# Altium integrated library Xilinx XC4000 XL.IntLib: 450 symbols (part 53 of 55)
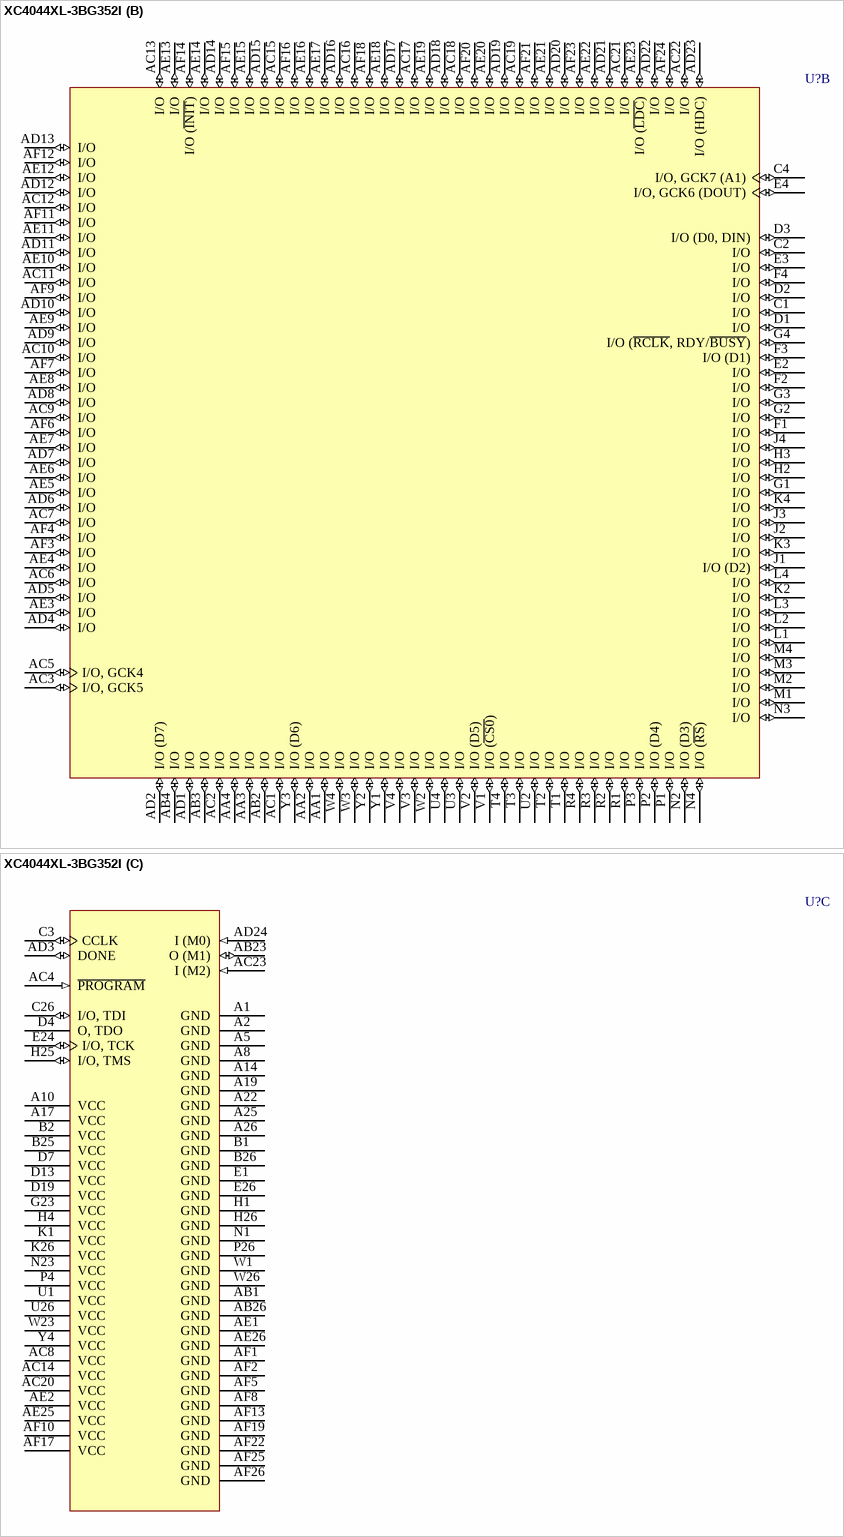
[diagram p451: symbol XC4044XL-3BG352I]

## XC4085XL-2BG560I
designator U?
XC4000XL FPGA, 560-Ball BGA, Industrial Grade; ComponentAvailability: Not for New Design; Published: 28-Feb-2003; LatestRevisionDate: 13-Apr-2006; LatestRevisionNote: IPC-7351 Footprint Added.; DatasheetVersion: (v1.6) May-99; PackageVersion: ver1.1, Apr-2001; PackageReference: BG560; Publisher: Altium Limited; PackageDescription: 560-Ball Metal Ball Grid Array (BG560); Code_JEDEC: MO-192-BAV-1 (Depopulated); ComponentLink1Description: Manufacturer Link; ComponentLink1URL: http://www.xilinx.com/; ComponentLink2Description: Datasheet; ComponentLink2URL: http://direct.xilinx.com/bvdocs/publications/4000.pdf; ComponentLink3Description: Discontinuation Notice; ComponentLink3URL: http://direct.xilinx.com/bvdocs/notifications/pdn2004-21.pdf
footprint BG560 (BGA, 560-Leads, Body 42.5x42.5mm, Pitch 1.27mm)
3D model XC4085XL-BG560 (560-Ball Metal Ball Grid Array (BG560))
part A pins: A3 I/O (io), A5 I/O (io), A6 I/O (io), A8 I/O (io), A9 I/O (io), A11 I/O (io), A13 I/O (io), A15 I/O (io), A17 I/O (A8) (io), A19 I/O (io), A21 I/O (io), A23 I/O (io), A25 I/O (io), A27 I/O (io), A28 I/O (io), A31 I/O (io), AA29 I/O (io), AA30 I/O (io), AA31 I/O (io), AA32 I/O (io), AA33 I/O (io), AB29 I/O (io), AB30 I/O (io), AB31 I/O (io), AB32 I/O (io), AC29 I/O (io), AC30 I/O (io), AC31 I/O (io), AC33 I/O (io), AD29 I/O (io), AD30 I/O (io), AD31 I/O (io), AD32 I/O (io), AE29 I/O (io), AE30 I/O (io), AE31 I/O (io), AE32 I/O (io), AE33 I/O (io), AF29 I/O (io), AF30 I/O (io), AF31 I/O (io), AF32 I/O (io), AG29 I/O (io), AG30 I/O (io), AG31 I/O (io), AG33 I/O (io), AH29 I/O, GCK2 (io), AH30 I/O (io), AH31 I/O (io), AH32 I/O (io), AH33 I/O (io), AJ28 I/O, GCK3 (io), AJ30 I/O (io), AJ31 I/O (io), AJ32 I/O (io), AK31 I/O (io), AK32 I/O (io), AL33 I/O (io), B4 I/O (io), B5 I/O (io), B7 I/O (io), B8 I/O (io), B10 I/O (io), B11 I/O (io), B12 I/O (io), B14 I/O (io), B16 I/O (io), B17 I/O (io), B18 I/O (A9) (io), B20 I/O (io), B21 I/O (io), B22 I/O (io), B24 I/O (io), B25 I/O (io), B26 I/O (io), B28 I/O (io), B29 I/O (A12) (io), B30 I/O (io), B33 I/O, GCK1 (A16) (io), C5 I/O (io), C6 I/O (CS1, A2) (io), C7 I/O (io), C8 I/O (io), C9 I/O (io), C10 I/O (io), C11 I/O (io), C12 I/O (io), C13 I/O (io), C14 I/O (io), C15 I/O (io), C16 I/O (A21) (io), C17 I/O (io), C18 I/O (io), C19 I/O (A19) (io), C20 I/O (A10) (io), C21 I/O (io), C22 I/O (io), C23 I/O (io), C24 I/O (io), C25 I/O (io), C26 I/O (io), C27 I/O (io), C28 I/O (io), C29 I/O (io), C30 I/O (io), D5 I/O (A0, ~{WS}) (io), D6 I/O (io), D7 I/O (io), D8 I/O (io), D9 I/O (io), D10 I/O (io), D11 I/O (io), D12 I/O (io), D13 I/O (io), D14 I/O (io), D15 I/O (A5) (io), D16 I/O (io), D17 I/O (A7) (io), D18 I/O (io), D19 I/O (A18) (io), D20 I/O (A11) (io), D21 I/O (io), D22 I/O (io), D23 I/O (io), D24 I/O (io), D25 I/O (io), D26 I/O (io), D27 I/O (io), D28 I/O (io), D29 I/O (io), D30 I/O (A14) (io), D31 I/O (io), D32 I/O (io), E7 I/O (io), E8 I/O (A3) (io), E9 I/O (io), E10 I/O (io), E11 I/O (io), E12 I/O (io), E13 I/O (io), E14 I/O (io), E15 I/O (A4) (io), E16 I/O (A20) (io), E17 I/O (A6) (io), E18 I/O (io), E19 I/O (io), E20 I/O (io), E21 I/O (io), E22 I/O (io), E23 I/O (io), E24 I/O (io), E25 I/O (io), E26 I/O (A13) (io), E27 I/O (io), E28 I/O (io), E29 I/O, GCK8 (A15) (io), E30 I/O (io), E31 I/O (io), E32 I/O (io), E33 I/O (io), F29 I/O (A17) (io), F31 I/O (io), F33 I/O (io), G29 I/O (io), G30 I/O (io), G31 I/O (io), G32 I/O (io), H29 I/O (io), H30 I/O (io), H31 I/O (io), H32 I/O (io), H33 I/O (io), J29 I/O (io), J30 I/O (io), J31 I/O (io), K29 I/O (io), K30 I/O (io), K31 I/O (io), K32 I/O (io), L29 I/O (io), L30 I/O (io), L31 I/O (io), L32 I/O (io), L33 I/O (io), M29 I/O (io), M30 I/O (io), M31 I/O (io), M32 I/O (io), N29 I/O (io), N30 I/O (io), N31 I/O (io), N33 I/O (io), P29 I/O (io), P30 I/O (io), P31 I/O (io), P32 I/O (io), R29 I/O (io), R30 I/O (io), R31 I/O (io), R33 I/O (io), T29 I/O (io), T30 I/O (io), T31 I/O (io), T32 I/O (io), U29 I/O (io), U30 I/O (io), U31 I/O (io), U32 I/O (io), U33 I/O (io), V29 I/O (io), V30 I/O (io), V31 I/O (io), V32 I/O (io), W29 I/O (io), W30 I/O (io), W31 I/O (io), W33 I/O (io), Y29 I/O (io), Y30 I/O (io), Y31 I/O (io), Y32 I/O (io)
part B pins: A2 I/O, GCK7 (A1) (io), AA1 I/O (io), AA3 I/O (io), AA4 I/O (io), AA5 I/O (D5) (io), AB2 I/O (io), AB3 I/O (~{CS0}) (io), AB4 I/O (io), AB5 I/O (io), AC1 I/O (io), AC3 I/O (io), AC4 I/O (io), AC5 I/O (io), AD2 I/O (io), AD3 I/O (io), AD4 I/O (io), AD5 I/O (io), AE1 I/O (io), AE3 I/O (io), AE4 I/O (io), AE5 I/O (io), AF1 I/O (io), AF2 I/O (io), AF3 I/O (io), AF4 I/O (io), AF5 I/O (io), AG2 I/O (io), AG3 I/O (io), AG4 I/O (io), AG5 I/O (io), AH1 I/O (io), AH3 I/O (io), AH4 I/O (io), AH5 I/O (D7) (io), AJ1 I/O (D6) (io), AJ2 I/O (io), AJ3 I/O (io), AJ4 I/O, GCK5 (io), AJ6 I/O (io), AJ7 I/O (io), AJ8 I/O (io), AJ9 I/O (io), AJ10 I/O (io), AJ11 I/O (io), AJ12 I/O (io), AJ13 I/O (io), AJ14 I/O (io), AJ15 I/O (io), AJ16 I/O (io), AJ17 I/O (~{INIT}) (io), AJ18 I/O (io), AJ19 I/O (io), AJ20 I/O (io), AJ21 I/O (io), AJ22 I/O (io), AJ23 I/O (io), AJ24 I/O (io), AJ25 I/O (io), AJ26 I/O (io), AJ27 I/O (~{LDC}) (io), AK2 I/O (io), AK3 I/O (io), AK5 I/O (io), AK6 I/O (io), AK7 I/O (io), AK8 I/O (io), AK9 I/O (io), AK10 I/O (io), AK11 I/O (io), AK12 I/O (io), AK13 I/O (io), AK14 I/O (io), AK15 I/O (io), AK16 I/O (io), AK17 I/O (io), AK18 I/O (io), AK19 I/O (io), AK20 I/O (io), AK21 I/O (io), AK22 I/O (io), AK23 I/O (io), AK24 I/O (io), AK25 I/O (io), AK26 I/O (io), AK27 I/O (io), AK28 I/O (io), AK29 I/O (HDC) (io), AL1 I/O (io), AL4 I/O, GCK4 (io), AL5 I/O (io), AL6 I/O (io), AL7 I/O (io), AL8 I/O (io), AL9 I/O (io), AL10 I/O (io), AL11 I/O (io), AL12 I/O (io), AL13 I/O (io), AL14 I/O (io), AL15 I/O (io), AL16 I/O (io), AL17 I/O (io), AL18 I/O (io), AL19 I/O (io), AL20 I/O (io), AL21 I/O (io), AL22 I/O (io), AL23 I/O (io), AL24 I/O (io), AL25 I/O (io), AL26 I/O (io), AL27 I/O (io), AL28 I/O (io), AL29 I/O (io), AL30 I/O (io), AM4 I/O (io), AM5 I/O (io), AM6 I/O (io), AM8 I/O (io), AM9 I/O (io), AM10 I/O (io), AM12 I/O (io), AM13 I/O (io), AM14 I/O (io), AM16 I/O (io), AM17 I/O (io), AM18 I/O (io), AM20 I/O (io), AM22 I/O (io), AM23 I/O (io), AM24 I/O (io), AM26 I/O (io), AM27 I/O (io), AM29 I/O (io), AM30 I/O (io), AM31 I/O (io), AN3 I/O (io), AN6 I/O (io), AN7 I/O (io), AN9 I/O (io), AN11 I/O (io), AN13 I/O (io), AN15 I/O (io), AN17 I/O (io), AN19 I/O (io), AN21 I/O (io), AN23 I/O (io), AN25 I/O (io), AN26 I/O (io), AN28 I/O (io), AN29 I/O (io), AN31 I/O (io), B3 I/O (io), C1 I/O (io), D2 I/O (io), D3 I/O (io), D4 I/O, GCK6 (DOUT) (io), E2 I/O (io), E3 I/O (io), E4 I/O (D0, DIN) (io), F1 I/O (io), F2 I/O (io), F3 I/O (D1) (io), F4 I/O (io), F5 I/O (io), G1 I/O (io), G3 I/O (io), G4 I/O (~{RCLK}, RDY/~{BUSY}) (io), G5 I/O (io), H2 I/O (io), H3 I/O (io), H4 I/O (io), H5 I/O (io), J1 I/O (io), J2 I/O (io), J3 I/O (io), J4 I/O (io), J5 I/O (io), K2 I/O (io), K3 I/O (io), K4 I/O (io), K5 I/O (io), L1 I/O (io), L3 I/O (io), L4 I/O (io), L5 I/O (io), M2 I/O (io), M3 I/O (io), M4 I/O (D2) (io), M5 I/O (io), N1 I/O (io), N2 I/O (io), N3 I/O (io), N4 I/O (io), N5 I/O (io), P2 I/O (io), P3 I/O (io), P4 I/O (io), P5 I/O (io), R1 I/O (io), R3 I/O (io), R4 I/O (io), R5 I/O (io), T2 I/O (~{RS}) (io), T3 I/O (io), T4 I/O (io), T5 I/O (io), U1 I/O (io), U2 I/O (io), U3 I/O (D3) (io), U4 I/O (io), U5 I/O (D4) (io), V2 I/O (io), V3 I/O (io), V4 I/O (io), V5 I/O (io), W1 I/O (io), W3 I/O (io), W4 I/O (io), W5 I/O (io), Y2 I/O (io), Y3 I/O (io), Y4 I/O (io), Y5 I/O (io)
part C pins: A1 NC, A4 VCC (power), A7 GND (power), A10 VCC (power), A12 GND (power), A14 GND (power), A16 VCC (power), A18 GND (power), A20 GND (power), A22 VCC (power), A24 GND (power), A26 VCC (power), A29 GND (power), A30 VCC (power), A32 GND (power), A33 NC, AA2 VCC (power), AB1 GND (power), AB33 VCC (power), AC2 NC, AC32 GND (power), AD1 VCC (power), AD33 GND (power), AE2 GND (power), AF33 VCC (power), AG1 GND (power), AG32 GND (power), AH2 GND (power), AJ5 DONE (io), AJ29 I (M0) (in), AJ33 GND (power), AK1 VCC (power), AK4 VCC (power), AK30 O (M1) (io), AK33 VCC (power), AL2 VCC (power), AL3 VCC (power), AL31 VCC (power), AL32 GND (power), AM1 ~{PROGRAM} (in), AM2 VCC (power), AM3 GND (power), AM7 GND (power), AM11 GND (power), AM15 VCC (power), AM19 GND (power), AM21 VCC (power), AM25 GND (power), AM28 GND (power), AM32 VCC (power), AM33 GND (power), AN1 NC, AN2 GND (power), AN4 VCC (power), AN5 GND (power), AN8 VCC (power), AN10 GND (power), AN12 VCC (power), AN14 GND (power), AN16 GND (power), AN18 VCC (power), AN20 GND (power), AN22 GND (power), AN24 VCC (power), AN27 GND (power), AN30 VCC (power), AN32 I (M2) (in), AN33 NC, B1 GND (power), B2 VCC (power), B6 GND (power), B9 GND (power), B13 VCC (power), B15 GND (power), B19 VCC (power), B23 GND (power), B27 GND (power), B31 GND (power), B32 VCC (power), C2 GND (power), C3 VCC (power), C4 CCLK (io), C31 VCC (power), C32 VCC (power), C33 I/O (TCK) (io), D1 VCC (power), D33 VCC (power), E1 GND (power), E5 VCC (power), E6 O, TDO (hiz), F30 I/O (TDI) (io), F32 GND (power), G2 GND (power), G33 GND (power), H1 VCC (power), J32 GND (power), J33 I/O (TMS) (io), K1 GND (power), K33 VCC (power), L2 GND (power), M1 VCC (power), M33 GND (power), N32 VCC (power), P1 GND (power), P33 GND (power), R2 VCC (power), R32 GND (power), T1 GND (power), T33 VCC (power), V1 VCC (power), V33 GND (power), W2 GND (power), W32 VCC (power), Y1 GND (power), Y33 GND (power)

## XC4085XL-2PG559C
designator U?
XC4000XL FPGA, 559-Pin PGA, Commercial Grade; ComponentAvailability: Not for New Design; Published: 28-Feb-2003; LatestRevisionDate: 04-Mar-2005; LatestRevisionNote: Stylized 3D Model Added.; DatasheetVersion: (v1.6) May-99; PackageVersion: ver1.1, Apr-2001; PackageReference: PG559; Publisher: Altium Limited; PackageDescription: 559-Pin Ceramic Pin Grid Array (PG559); ComponentLink1Description: Manufacturer Link; ComponentLink1URL: http://www.xilinx.com/; ComponentLink2Description: Datasheet; ComponentLink2URL: http://direct.xilinx.com/bvdocs/publications/4000.pdf
footprint PG559 (PGA, 559-Leads, Body 57.4x57.4mm, Pitch 2.54mm)
3D model XC4085XL-PG559 (559-Pin Ceramic Pin Grid Array (PG559))
part A pins: A3 I/O (io), A7 I/O (io), A9 I/O (io), A15 I/O (io), A17 I/O (io), A21 I/O (io), A23 I/O (io), A27 I/O (io), A29 I/O (io), A33 I/O (io), A35 I/O (io), A37 I/O (io), A41 I/O (io), AA1 I/O (io), AA3 I/O (io), AA5 I/O (io), AA7 I/O (io), AB2 I/O (A18) (io), AB4 I/O (A9) (io), AB6 I/O (A8) (io), AC1 I/O (io), AC3 I/O (A7) (io), AC5 I/O (A6) (io), AC7 I/O (io), AD2 I/O (io), AD4 I/O (io), AD6 I/O (A20) (io), AD8 I/O (A5) (io), AE5 I/O (A21) (io), AE7 I/O (io), AF2 I/O (io), AF4 I/O (io), AF6 I/O (io), AG1 I/O (io), AG3 I/O (A4) (io), AG5 I/O (io), AG7 I/O (io), AH2 I/O (io), AH4 I/O (io), AH8 I/O (io), AJ1 I/O (io), AJ3 I/O (io), AJ5 I/O (io), AJ7 I/O (io), AK2 I/O (io), AK4 I/O (io), AK8 I/O (io), AL3 I/O (io), AL5 I/O (io), AL7 I/O (io), AM4 I/O (io), AM6 I/O (io), AN1 I/O (io), AN3 I/O (io), AN5 I/O (io), AN7 I/O (io), AP2 I/O (io), AP4 I/O (io), AP8 I/O (io), AR1 I/O (io), AR3 I/O (io), AR5 I/O (io), AR7 I/O (io), AT2 I/O (io), AT4 I/O (io), AT6 I/O (io), AT8 I/O (A0, ~{WS}) (io), AU1 I/O (io), AU5 I/O (CS1, A2) (io), AV2 I/O (io), AV4 I/O (io), AW3 I/O (io), AY2 I/O (io), AY4 I/O (io), B4 I/O (io), B6 I/O (io), B8 I/O (io), B10 I/O (io), B14 I/O (io), B16 I/O (io), B18 I/O (io), B20 I/O (io), B22 I/O (io), B24 I/O (io), B26 I/O (io), B28 I/O (io), B30 I/O (io), B34 I/O (io), B36 I/O (io), B38 I/O (io), B40 I/O (io), BA1 I/O (A3) (io), BB2 I/O (io), C1 I/O, GCK1 (A16) (io), C3 I/O (A17) (io), C5 I/O (io), C9 I/O (io), C11 I/O (io), C13 I/O (io), C15 I/O (io), C17 I/O (io), C21 I/O (io), C23 I/O (io), C27 I/O (io), C29 I/O (io), C31 I/O (io), C33 I/O (io), C35 I/O (io), D2 I/O (io), D6 I/O (io), D8 I/O (io), D10 I/O (io), D12 I/O (io), D14 I/O (io), D16 I/O (io), D18 I/O (io), D20 I/O (io), D22 I/O (io), D24 I/O (io), D26 I/O (io), D28 I/O (io), D30 I/O (io), D32 I/O (io), D34 I/O (io), D36 I/O (io), E3 I/O, GCK8 (A15) (io), E7 I/O (io), E9 I/O (io), E11 I/O (io), E13 I/O (io), E15 I/O (io), E17 I/O (io), E19 I/O (io), E21 I/O (io), E23 I/O (io), E25 I/O (io), E27 I/O (io), E29 I/O (io), E31 I/O (io), E33 I/O (io), E35 I/O (io), E37 I/O, GCK2 (io), F2 I/O (io), F4 I/O (A14) (io), F6 I/O (io), F8 I/O (io), F12 I/O (io), F18 I/O (io), F20 I/O (io), F22 I/O (io), F24 I/O (io), F26 I/O (io), F32 I/O (io), F36 I/O (io), F38 I/O, GCK3 (io), G1 I/O (io), G5 I/O (io), G9 I/O (io), G11 I/O (io), G13 I/O (io), G15 I/O (io), G17 I/O (io), G19 I/O (io), G21 I/O (io), G23 I/O (io), G25 I/O (io), G27 I/O (io), G29 I/O (io), G31 I/O (io), G33 I/O (io), G35 I/O (io), H2 I/O (io), H4 I/O (io), H6 I/O (io), H10 I/O (io), H14 I/O (io), H16 I/O (io), H20 I/O (io), H24 I/O (io), H28 I/O (io), H30 I/O (io), H34 I/O (io), J1 I/O (io), J3 I/O (A13) (io), J5 I/O (io), J7 I/O (io), K2 I/O (io), K4 I/O (A12) (io), K8 I/O (io), L1 I/O (io), L3 I/O (io), L5 I/O (io), L7 I/O (io), M4 I/O (io), M6 I/O (io), N3 I/O (io), N5 I/O (io), N7 I/O (io), P2 I/O (io), P4 I/O (io), P8 I/O (io), R1 I/O (io), R3 I/O (io), R5 I/O (io), R7 I/O (io), T2 I/O (io), T4 I/O (io), T8 I/O (io), U1 I/O (io), U3 I/O (io), U5 I/O (io), U7 I/O (io), V2 I/O (io), V4 I/O (io), V6 I/O (io), W5 I/O (io), W7 I/O (A11) (io), Y2 I/O (io), Y4 I/O (A10) (io), Y6 I/O (io), Y8 I/O (A19) (io)
part B pins: AA37 I/O (io), AA39 I/O (~{INIT}) (io), AA41 I/O (io), AA43 I/O (io), AB38 I/O (io), AB40 I/O (io), AB42 I/O (io), AC37 I/O (io), AC39 I/O (io), AC41 I/O (io), AC43 I/O (io), AD36 I/O (io), AD38 I/O (io), AD40 I/O (io), AD42 I/O (io), AE37 I/O (io), AE39 I/O (io), AF38 I/O (io), AF40 I/O (io), AF42 I/O (io), AG37 I/O (io), AG39 I/O (io), AG41 I/O (io), AG43 I/O (io), AH36 I/O (io), AH40 I/O (io), AH42 I/O (io), AJ37 I/O (io), AJ39 I/O (io), AJ41 I/O (io), AJ43 I/O (io), AK36 I/O (io), AK40 I/O (io), AK42 I/O (io), AL37 I/O (io), AL39 I/O (io), AL41 I/O (io), AM38 I/O (io), AM40 I/O (io), AN37 I/O (io), AN39 I/O (io), AN41 I/O (io), AN43 I/O (io), AP36 I/O (io), AP40 I/O (io), AP42 I/O (io), AR37 I/O (io), AR39 I/O (io), AR41 I/O (io), AR43 I/O (io), AT10 I/O (io), AT14 I/O (io), AT16 I/O (io), AT20 I/O (io), AT24 I/O (io), AT28 I/O (io), AT30 I/O (io), AT34 I/O (io), AT36 I/O (io), AT38 I/O (io), AT40 I/O (io), AT42 I/O (io), AU9 I/O (io), AU11 I/O (io), AU13 I/O (io), AU15 I/O (io), AU17 I/O (io), AU19 I/O (io), AU21 I/O (io), AU23 I/O (io), AU25 I/O (io), AU27 I/O (io), AU29 I/O (io), AU31 I/O (io), AU33 I/O (io), AU35 I/O (D6) (io), AU39 I/O (io), AU43 I/O (io), AV6 I/O, GCK7 (A1) (io), AV8 I/O (io), AV12 I/O (io), AV18 I/O (io), AV20 I/O (io), AV22 I/O (~{RS}) (io), AV24 I/O (io), AV26 I/O (io), AV32 I/O (io), AV36 I/O (io), AV38 I/O, GCK5 (io), AV40 I/O (io), AV42 I/O (io), AW7 I/O (io), AW9 I/O (~{RCLK}, RDY/~{BUSY}) (io), AW11 I/O (io), AW13 I/O (io), AW15 I/O (io), AW17 I/O (io), AW19 I/O (io), AW21 I/O (io), AW23 I/O (io), AW25 I/O (io), AW27 I/O (io), AW29 I/O (~{CS0}) (io), AW31 I/O (io), AW33 I/O (io), AW35 I/O (io), AW37 I/O (io), AW41 I/O, GCK4 (io), AY6 I/O (D0, DIN) (io), AY8 I/O (io), AY10 I/O (io), AY12 I/O (io), AY14 I/O (io), AY16 I/O (D2) (io), AY18 I/O (io), AY20 I/O (io), AY22 I/O (io), AY24 I/O (D4) (io), AY26 I/O (io), AY28 I/O (io), AY30 I/O (io), AY32 I/O (io), AY34 I/O (io), AY36 I/O (io), AY38 I/O (io), AY40 I/O (io), B42 I/O (io), BA9 I/O (D1) (io), BA11 I/O (io), BA13 I/O (io), BA15 I/O (io), BA17 I/O (io), BA21 I/O (io), BA23 I/O (D3) (io), BA27 I/O (io), BA29 I/O (io), BA31 I/O (io), BA33 I/O (io), BA35 I/O (io), BA39 I/O (io), BA41 I/O (io), BA43 I/O (io), BB4 I/O, GCK6 (DOUT) (io), BB6 I/O (io), BB8 I/O (io), BB10 I/O (io), BB14 I/O (io), BB16 I/O (io), BB18 I/O (io), BB20 I/O (io), BB22 I/O (io), BB24 I/O (io), BB26 I/O (io), BB28 I/O (io), BB30 I/O (io), BB34 I/O (io), BB36 I/O (io), BB38 I/O (io), BB40 I/O (io), BC3 I/O (io), BC7 I/O (io), BC9 I/O (io), BC11 I/O (io), BC15 I/O (io), BC17 I/O (io), BC21 I/O (io), BC23 I/O (io), BC27 I/O (io), BC29 I/O (D5) (io), BC33 I/O (io), BC35 I/O (io), BC37 I/O (io), BC41 I/O (D7) (io), C41 I/O (HDC) (io), C43 I/O (io), D40 I/O (io), D42 I/O (io), E41 I/O (io), F40 I/O (io), F42 I/O (io), G39 I/O (io), G43 I/O (io), H38 I/O (io), H40 I/O (io), H42 I/O (io), J37 I/O (io), J39 I/O (io), J41 I/O (io), J43 I/O (io), K36 I/O (~{LDC}) (io), K40 I/O (io), K42 I/O (io), L37 I/O (io), L39 I/O (io), L41 I/O (io), L43 I/O (io), M38 I/O (io), M40 I/O (io), N37 I/O (io), N39 I/O (io), N41 I/O (io), P36 I/O (io), P40 I/O (io), P42 I/O (io), R37 I/O (io), R39 I/O (io), R41 I/O (io), R43 I/O (io), T36 I/O (io), T40 I/O (io), T42 I/O (io), U37 I/O (io), U39 I/O (io), U41 I/O (io), U43 I/O (io), V38 I/O (io), V40 I/O (io), V42 I/O (io), W37 I/O (io), W39 I/O (io), Y36 I/O (io), Y38 I/O (io), Y40 I/O (io), Y42 I/O (io)
part C pins: A5 GND (power), A11 I/O (TMS) (io), A13 VCC (power), A19 GND (power), A25 GND (power), A31 VCC (power), A39 GND (power), A43 VCC (power), AB8 GND (power), AB36 GND (power), AE1 GND (power), AE3 VCC (power), AE41 VCC (power), AE43 GND (power), AF8 VCC (power), AF36 VCC (power), AH6 GND (power), AH38 GND (power), AK6 VCC (power), AK38 VCC (power), AL1 VCC (power), AL43 VCC (power), AM2 GND (power), AM8 VCC (power), AM36 VCC (power), AM42 GND (power), AP6 GND (power), AP38 GND (power), AT12 VCC (power), AT18 VCC (power), AT22 GND (power), AT26 VCC (power), AT32 VCC (power), AU3 VCC (power), AU7 VCC (power), AU37 VCC (power), AU41 VCC (power), AV10 GND (power), AV14 VCC (power), AV16 GND (power), AV28 GND (power), AV30 VCC (power), AV34 GND (power), AW1 GND (power), AW5 GND (power), AW39 GND (power), AW43 GND (power), AY42 DONE (io), B2 VCC (power), B12 GND (power), B32 GND (power), BA3 O, TDO (hiz), BA5 CCLK (io), BA7 VCC (power), BA19 VCC (power), BA25 VCC (power), BA37 VCC (power), BB12 GND (power), BB32 GND (power), BB42 ~{PROGRAM} (in), BC1 VCC (power), BC5 GND (power), BC13 VCC (power), BC19 GND (power), BC25 GND (power), BC31 VCC (power), BC39 GND (power), BC43 VCC (power), C7 VCC (power), C19 VCC (power), C25 VCC (power), C37 VCC (power), C39 I (M0) (in), D4 I/O (TCK) (io), D38 O (M1) (io), E1 GND (power), E5 GND (power), E39 GND (power), E43 GND (power), F10 GND (power), F14 VCC (power), F16 GND (power), F28 GND (power), F30 VCC (power), F34 GND (power), G3 VCC (power), G7 VCC (power), G37 VCC (power), G41 VCC (power), H8 I/O (TDI) (io), H12 VCC (power), H18 VCC (power), H22 GND (power), H26 VCC (power), H32 VCC (power), H36 I (M2) (in), K6 GND (power), K38 GND (power), M2 GND (power), M8 VCC (power), M36 VCC (power), M42 GND (power), N1 VCC (power), N43 VCC (power), P6 VCC (power), P38 VCC (power), T6 GND (power), T38 GND (power), V8 VCC (power), V36 VCC (power), W1 GND (power), W3 VCC (power), W41 VCC (power), W43 GND (power)

## XC4085XL-2PG559I
designator U?
XC4000XL FPGA, 559-Pin PGA, Industrial Grade; ComponentAvailability: Not for New Design; Published: 28-Feb-2003; LatestRevisionDate: 04-Mar-2005; LatestRevisionNote: Stylized 3D Model Added.; DatasheetVersion: (v1.6) May-99; PackageVersion: ver1.1, Apr-2001; PackageReference: PG559; Publisher: Altium Limited; PackageDescription: 559-Pin Ceramic Pin Grid Array (PG559); ComponentLink1Description: Manufacturer Link; ComponentLink1URL: http://www.xilinx.com/; ComponentLink2Description: Datasheet; ComponentLink2URL: http://direct.xilinx.com/bvdocs/publications/4000.pdf
footprint PG559 (PGA, 559-Leads, Body 57.4x57.4mm, Pitch 2.54mm)
3D model XC4085XL-PG559 (559-Pin Ceramic Pin Grid Array (PG559))
part A pins: A3 I/O (io), A7 I/O (io), A9 I/O (io), A15 I/O (io), A17 I/O (io), A21 I/O (io), A23 I/O (io), A27 I/O (io), A29 I/O (io), A33 I/O (io), A35 I/O (io), A37 I/O (io), A41 I/O (io), AA1 I/O (io), AA3 I/O (io), AA5 I/O (io), AA7 I/O (io), AB2 I/O (A18) (io), AB4 I/O (A9) (io), AB6 I/O (A8) (io), AC1 I/O (io), AC3 I/O (A7) (io), AC5 I/O (A6) (io), AC7 I/O (io), AD2 I/O (io), AD4 I/O (io), AD6 I/O (A20) (io), AD8 I/O (A5) (io), AE5 I/O (A21) (io), AE7 I/O (io), AF2 I/O (io), AF4 I/O (io), AF6 I/O (io), AG1 I/O (io), AG3 I/O (A4) (io), AG5 I/O (io), AG7 I/O (io), AH2 I/O (io), AH4 I/O (io), AH8 I/O (io), AJ1 I/O (io), AJ3 I/O (io), AJ5 I/O (io), AJ7 I/O (io), AK2 I/O (io), AK4 I/O (io), AK8 I/O (io), AL3 I/O (io), AL5 I/O (io), AL7 I/O (io), AM4 I/O (io), AM6 I/O (io), AN1 I/O (io), AN3 I/O (io), AN5 I/O (io), AN7 I/O (io), AP2 I/O (io), AP4 I/O (io), AP8 I/O (io), AR1 I/O (io), AR3 I/O (io), AR5 I/O (io), AR7 I/O (io), AT2 I/O (io), AT4 I/O (io), AT6 I/O (io), AT8 I/O (A0, ~{WS}) (io), AU1 I/O (io), AU5 I/O (CS1, A2) (io), AV2 I/O (io), AV4 I/O (io), AW3 I/O (io), AY2 I/O (io), AY4 I/O (io), B4 I/O (io), B6 I/O (io), B8 I/O (io), B10 I/O (io), B14 I/O (io), B16 I/O (io), B18 I/O (io), B20 I/O (io), B22 I/O (io), B24 I/O (io), B26 I/O (io), B28 I/O (io), B30 I/O (io), B34 I/O (io), B36 I/O (io), B38 I/O (io), B40 I/O (io), BA1 I/O (A3) (io), BB2 I/O (io), C1 I/O, GCK1 (A16) (io), C3 I/O (A17) (io), C5 I/O (io), C9 I/O (io), C11 I/O (io), C13 I/O (io), C15 I/O (io), C17 I/O (io), C21 I/O (io), C23 I/O (io), C27 I/O (io), C29 I/O (io), C31 I/O (io), C33 I/O (io), C35 I/O (io), D2 I/O (io), D6 I/O (io), D8 I/O (io), D10 I/O (io), D12 I/O (io), D14 I/O (io), D16 I/O (io), D18 I/O (io), D20 I/O (io), D22 I/O (io), D24 I/O (io), D26 I/O (io), D28 I/O (io), D30 I/O (io), D32 I/O (io), D34 I/O (io), D36 I/O (io), E3 I/O, GCK8 (A15) (io), E7 I/O (io), E9 I/O (io), E11 I/O (io), E13 I/O (io), E15 I/O (io), E17 I/O (io), E19 I/O (io), E21 I/O (io), E23 I/O (io), E25 I/O (io), E27 I/O (io), E29 I/O (io), E31 I/O (io), E33 I/O (io), E35 I/O (io), E37 I/O, GCK2 (io), F2 I/O (io), F4 I/O (A14) (io), F6 I/O (io), F8 I/O (io), F12 I/O (io), F18 I/O (io), F20 I/O (io), F22 I/O (io), F24 I/O (io), F26 I/O (io), F32 I/O (io), F36 I/O (io), F38 I/O, GCK3 (io), G1 I/O (io), G5 I/O (io), G9 I/O (io), G11 I/O (io), G13 I/O (io), G15 I/O (io), G17 I/O (io), G19 I/O (io), G21 I/O (io), G23 I/O (io), G25 I/O (io), G27 I/O (io), G29 I/O (io), G31 I/O (io), G33 I/O (io), G35 I/O (io), H2 I/O (io), H4 I/O (io), H6 I/O (io), H10 I/O (io), H14 I/O (io), H16 I/O (io), H20 I/O (io), H24 I/O (io), H28 I/O (io), H30 I/O (io), H34 I/O (io), J1 I/O (io), J3 I/O (A13) (io), J5 I/O (io), J7 I/O (io), K2 I/O (io), K4 I/O (A12) (io), K8 I/O (io), L1 I/O (io), L3 I/O (io), L5 I/O (io), L7 I/O (io), M4 I/O (io), M6 I/O (io), N3 I/O (io), N5 I/O (io), N7 I/O (io), P2 I/O (io), P4 I/O (io), P8 I/O (io), R1 I/O (io), R3 I/O (io), R5 I/O (io), R7 I/O (io), T2 I/O (io), T4 I/O (io), T8 I/O (io), U1 I/O (io), U3 I/O (io), U5 I/O (io), U7 I/O (io), V2 I/O (io), V4 I/O (io), V6 I/O (io), W5 I/O (io), W7 I/O (A11) (io), Y2 I/O (io), Y4 I/O (A10) (io), Y6 I/O (io), Y8 I/O (A19) (io)
part B pins: AA37 I/O (io), AA39 I/O (~{INIT}) (io), AA41 I/O (io), AA43 I/O (io), AB38 I/O (io), AB40 I/O (io), AB42 I/O (io), AC37 I/O (io), AC39 I/O (io), AC41 I/O (io), AC43 I/O (io), AD36 I/O (io), AD38 I/O (io), AD40 I/O (io), AD42 I/O (io), AE37 I/O (io), AE39 I/O (io), AF38 I/O (io), AF40 I/O (io), AF42 I/O (io), AG37 I/O (io), AG39 I/O (io), AG41 I/O (io), AG43 I/O (io), AH36 I/O (io), AH40 I/O (io), AH42 I/O (io), AJ37 I/O (io), AJ39 I/O (io), AJ41 I/O (io), AJ43 I/O (io), AK36 I/O (io), AK40 I/O (io), AK42 I/O (io), AL37 I/O (io), AL39 I/O (io), AL41 I/O (io), AM38 I/O (io), AM40 I/O (io), AN37 I/O (io), AN39 I/O (io), AN41 I/O (io), AN43 I/O (io), AP36 I/O (io), AP40 I/O (io), AP42 I/O (io), AR37 I/O (io), AR39 I/O (io), AR41 I/O (io), AR43 I/O (io), AT10 I/O (io), AT14 I/O (io), AT16 I/O (io), AT20 I/O (io), AT24 I/O (io), AT28 I/O (io), AT30 I/O (io), AT34 I/O (io), AT36 I/O (io), AT38 I/O (io), AT40 I/O (io), AT42 I/O (io), AU9 I/O (io), AU11 I/O (io), AU13 I/O (io), AU15 I/O (io), AU17 I/O (io), AU19 I/O (io), AU21 I/O (io), AU23 I/O (io), AU25 I/O (io), AU27 I/O (io), AU29 I/O (io), AU31 I/O (io), AU33 I/O (io), AU35 I/O (D6) (io), AU39 I/O (io), AU43 I/O (io), AV6 I/O, GCK7 (A1) (io), AV8 I/O (io), AV12 I/O (io), AV18 I/O (io), AV20 I/O (io), AV22 I/O (~{RS}) (io), AV24 I/O (io), AV26 I/O (io), AV32 I/O (io), AV36 I/O (io), AV38 I/O, GCK5 (io), AV40 I/O (io), AV42 I/O (io), AW7 I/O (io), AW9 I/O (~{RCLK}, RDY/~{BUSY}) (io), AW11 I/O (io), AW13 I/O (io), AW15 I/O (io), AW17 I/O (io), AW19 I/O (io), AW21 I/O (io), AW23 I/O (io), AW25 I/O (io), AW27 I/O (io), AW29 I/O (~{CS0}) (io), AW31 I/O (io), AW33 I/O (io), AW35 I/O (io), AW37 I/O (io), AW41 I/O, GCK4 (io), AY6 I/O (D0, DIN) (io), AY8 I/O (io), AY10 I/O (io), AY12 I/O (io), AY14 I/O (io), AY16 I/O (D2) (io), AY18 I/O (io), AY20 I/O (io), AY22 I/O (io), AY24 I/O (D4) (io), AY26 I/O (io), AY28 I/O (io), AY30 I/O (io), AY32 I/O (io), AY34 I/O (io), AY36 I/O (io), AY38 I/O (io), AY40 I/O (io), B42 I/O (io), BA9 I/O (D1) (io), BA11 I/O (io), BA13 I/O (io), BA15 I/O (io), BA17 I/O (io), BA21 I/O (io), BA23 I/O (D3) (io), BA27 I/O (io), BA29 I/O (io), BA31 I/O (io), BA33 I/O (io), BA35 I/O (io), BA39 I/O (io), BA41 I/O (io), BA43 I/O (io), BB4 I/O, GCK6 (DOUT) (io), BB6 I/O (io), BB8 I/O (io), BB10 I/O (io), BB14 I/O (io), BB16 I/O (io), BB18 I/O (io), BB20 I/O (io), BB22 I/O (io), BB24 I/O (io), BB26 I/O (io), BB28 I/O (io), BB30 I/O (io), BB34 I/O (io), BB36 I/O (io), BB38 I/O (io), BB40 I/O (io), BC3 I/O (io), BC7 I/O (io), BC9 I/O (io), BC11 I/O (io), BC15 I/O (io), BC17 I/O (io), BC21 I/O (io), BC23 I/O (io), BC27 I/O (io), BC29 I/O (D5) (io), BC33 I/O (io), BC35 I/O (io), BC37 I/O (io), BC41 I/O (D7) (io), C41 I/O (HDC) (io), C43 I/O (io), D40 I/O (io), D42 I/O (io), E41 I/O (io), F40 I/O (io), F42 I/O (io), G39 I/O (io), G43 I/O (io), H38 I/O (io), H40 I/O (io), H42 I/O (io), J37 I/O (io), J39 I/O (io), J41 I/O (io), J43 I/O (io), K36 I/O (~{LDC}) (io), K40 I/O (io), K42 I/O (io), L37 I/O (io), L39 I/O (io), L41 I/O (io), L43 I/O (io), M38 I/O (io), M40 I/O (io), N37 I/O (io), N39 I/O (io), N41 I/O (io), P36 I/O (io), P40 I/O (io), P42 I/O (io), R37 I/O (io), R39 I/O (io), R41 I/O (io), R43 I/O (io), T36 I/O (io), T40 I/O (io), T42 I/O (io), U37 I/O (io), U39 I/O (io), U41 I/O (io), U43 I/O (io), V38 I/O (io), V40 I/O (io), V42 I/O (io), W37 I/O (io), W39 I/O (io), Y36 I/O (io), Y38 I/O (io), Y40 I/O (io), Y42 I/O (io)
part C pins: A5 GND (power), A11 I/O (TMS) (io), A13 VCC (power), A19 GND (power), A25 GND (power), A31 VCC (power), A39 GND (power), A43 VCC (power), AB8 GND (power), AB36 GND (power), AE1 GND (power), AE3 VCC (power), AE41 VCC (power), AE43 GND (power), AF8 VCC (power), AF36 VCC (power), AH6 GND (power), AH38 GND (power), AK6 VCC (power), AK38 VCC (power), AL1 VCC (power), AL43 VCC (power), AM2 GND (power), AM8 VCC (power), AM36 VCC (power), AM42 GND (power), AP6 GND (power), AP38 GND (power), AT12 VCC (power), AT18 VCC (power), AT22 GND (power), AT26 VCC (power), AT32 VCC (power), AU3 VCC (power), AU7 VCC (power), AU37 VCC (power), AU41 VCC (power), AV10 GND (power), AV14 VCC (power), AV16 GND (power), AV28 GND (power), AV30 VCC (power), AV34 GND (power), AW1 GND (power), AW5 GND (power), AW39 GND (power), AW43 GND (power), AY42 DONE (io), B2 VCC (power), B12 GND (power), B32 GND (power), BA3 O, TDO (hiz), BA5 CCLK (io), BA7 VCC (power), BA19 VCC (power), BA25 VCC (power), BA37 VCC (power), BB12 GND (power), BB32 GND (power), BB42 ~{PROGRAM} (in), BC1 VCC (power), BC5 GND (power), BC13 VCC (power), BC19 GND (power), BC25 GND (power), BC31 VCC (power), BC39 GND (power), BC43 VCC (power), C7 VCC (power), C19 VCC (power), C25 VCC (power), C37 VCC (power), C39 I (M0) (in), D4 I/O (TCK) (io), D38 O (M1) (io), E1 GND (power), E5 GND (power), E39 GND (power), E43 GND (power), F10 GND (power), F14 VCC (power), F16 GND (power), F28 GND (power), F30 VCC (power), F34 GND (power), G3 VCC (power), G7 VCC (power), G37 VCC (power), G41 VCC (power), H8 I/O (TDI) (io), H12 VCC (power), H18 VCC (power), H22 GND (power), H26 VCC (power), H32 VCC (power), H36 I (M2) (in), K6 GND (power), K38 GND (power), M2 GND (power), M8 VCC (power), M36 VCC (power), M42 GND (power), N1 VCC (power), N43 VCC (power), P6 VCC (power), P38 VCC (power), T6 GND (power), T38 GND (power), V8 VCC (power), V36 VCC (power), W1 GND (power), W3 VCC (power), W41 VCC (power), W43 GND (power)

## XC4085XL-3BG432C
designator U?
XC4000XL FPGA, 432-Ball BGA, Commercial Grade; ComponentAvailability: Not for New Design; Published: 28-Feb-2003; LatestRevisionDate: 13-Apr-2006; LatestRevisionNote: IPC-7351 Footprint Added.; DatasheetVersion: (v1.6) May-99; PackageVersion: ver1.1, Apr-2001; PackageReference: BG432; Publisher: Altium Limited; PackageDescription: 432-Ball Metal Ball Grid Array (BG432); Code_JEDEC: MO-192-BAU-1 (Depopulated); ComponentLink1Description: Manufacturer Link; ComponentLink1URL: http://www.xilinx.com/; ComponentLink2Description: Datasheet; ComponentLink2URL: http://direct.xilinx.com/bvdocs/publications/4000.pdf; ComponentLink3Description: Discontinuation Notice; ComponentLink3URL: http://direct.xilinx.com/bvdocs/notifications/pdn2004-21.pdf
footprint BG432 (BGA, 432-Leads, Body 40x40mm, Pitch 1.27mm)
3D model XC4085XL-BG432 (432-Ball Metal Ball Grid Array (BG432))
part A pins: A4 I/O (io), A5 I/O (CS1, A2) (io), A6 I/O (io), A8 I/O (io), A10 I/O (io), A12 I/O (io), A13 I/O (A5) (io), A15 I/O (io), A16 I/O (A7) (io), A17 I/O (A9) (io), A19 I/O (io), A20 I/O (io), A22 I/O (io), A24 I/O (io), A26 I/O (io), A27 I/O (io), A28 I/O (io), AA29 I/O (io), AA30 I/O (io), AB28 I/O (io), AB29 I/O (io), AB30 I/O (io), AB31 I/O (io), AC28 I/O (io), AC29 I/O (io), AC30 I/O (io), AD28 I/O (io), AD29 I/O (io), AD30 I/O (io), AD31 I/O (io), AE28 I/O (io), AE29 I/O (io), AE30 I/O (io), AF28 I/O (io), AF29 I/O (io), AF30 I/O (io), AF31 I/O (io), AG28 I/O (io), AG29 I/O (io), AG30 I/O (io), AG31 I/O (io), AH30 I/O (io), AH31 I/O (io), AJ30 I/O, GCK2 (io), AK29 I/O, GCK3 (io), B3 I/O (A0, ~{WS}) (io), B4 I/O (io), B5 I/O (io), B6 I/O (io), B7 I/O (io), B8 I/O (io), B9 I/O (io), B10 I/O (io), B11 I/O (io), B12 I/O (io), B13 I/O (io), B14 I/O (io), B15 I/O (A20) (io), B16 I/O (A6) (io), B17 I/O (io), B18 I/O (io), B19 I/O (A10) (io), B20 I/O (io), B21 I/O (io), B22 I/O (io), B23 I/O (io), B24 I/O (io), B25 I/O (io), B26 I/O (A13) (io), B27 I/O (io), B28 I/O (io), B29 I/O (io), C5 I/O (io), C6 I/O (io), C7 I/O (io), C9 I/O (io), C10 I/O (io), C11 I/O (io), C12 I/O (io), C13 I/O (io), C14 I/O (A4) (io), C15 I/O (A21) (io), C16 I/O (io), C17 I/O (io), C18 I/O (A19) (io), C19 I/O (A11) (io), C20 I/O (io), C21 I/O (io), C22 I/O (io), C23 I/O (io), C24 I/O (io), C25 I/O (io), C26 I/O (io), C27 I/O (io), C28 I/O (A14) (io), C30 I/O (A17) (io), D6 I/O (io), D7 I/O (A3) (io), D8 I/O (io), D9 I/O (io), D10 I/O (io), D12 I/O (io), D13 I/O (io), D14 I/O (io), D15 I/O (io), D17 I/O (A8) (io), D18 I/O (A18) (io), D19 I/O (io), D20 I/O (io), D22 I/O (io), D23 I/O (io), D24 I/O (A12) (io), D25 I/O (io), D26 I/O (io), D27 I/O (io), D28 I/O, GCK8 (A15) (io), D29 I/O, GCK1 (A16) (io), E28 I/O (io), E29 I/O (io), E30 I/O (io), E31 I/O (io), F28 I/O (io), F29 I/O (io), F30 I/O (io), F31 I/O (io), G28 I/O (io), G29 I/O (io), G30 I/O (io), H28 I/O (io), H29 I/O (io), H30 I/O (io), H31 I/O (io), J28 I/O (io), J29 I/O (io), J30 I/O (io), K28 I/O (io), K29 I/O (io), K31 I/O (io), L29 I/O (io), L30 I/O (io), M28 I/O (io), M29 I/O (io), M30 I/O (io), M31 I/O (io), N28 I/O (io), N29 I/O (io), N30 I/O (io), N31 I/O (io), P28 I/O (io), P29 I/O (io), P30 I/O (io), R28 I/O (io), R29 I/O (io), R30 I/O (io), R31 I/O (io), T29 I/O (io), T30 I/O (io), T31 I/O (io), U28 I/O (io), U29 I/O (io), U30 I/O (io), U31 I/O (io), V28 I/O (io), V29 I/O (io), V30 I/O (io), W28 I/O (io), W29 I/O (io), W30 I/O (io), W31 I/O (io), Y28 I/O (io), Y29 I/O (io), Y30 I/O (io), Y31 I/O (io)
part B pins: AA2 I/O (D5) (io), AA3 I/O (io), AB1 I/O (io), AB2 I/O (io), AB3 I/O (io), AB4 I/O (io), AC2 I/O (io), AC3 I/O (io), AC4 I/O (io), AD1 I/O (io), AD2 I/O (io), AD3 I/O (io), AD4 I/O (io), AE2 I/O (io), AE3 I/O (io), AE4 I/O (io), AF1 I/O (D6) (io), AF2 I/O (io), AF3 I/O (io), AF4 I/O (io), AG1 I/O (io), AG2 I/O (io), AG3 I/O (io), AG4 I/O, GCK5 (io), AH1 I/O (io), AH2 I/O (io), AH5 I/O (io), AH6 I/O (io), AH7 I/O (io), AH8 I/O (io), AH9 I/O (io), AH10 I/O (io), AH12 I/O (io), AH13 I/O (io), AH14 I/O (io), AH15 I/O (io), AH17 I/O (io), AH18 I/O (io), AH19 I/O (io), AH20 I/O (io), AH22 I/O (io), AH23 I/O (io), AH24 I/O (io), AH25 I/O (io), AH26 I/O (~{LDC}) (io), AH27 I/O (HDC) (io), AJ2 I/O (D7) (io), AJ4 I/O, GCK4 (io), AJ5 I/O (io), AJ6 I/O (io), AJ7 I/O (io), AJ8 I/O (io), AJ9 I/O (io), AJ10 I/O (io), AJ11 I/O (io), AJ12 I/O (io), AJ13 I/O (io), AJ14 I/O (io), AJ15 I/O (io), AJ16 I/O (io), AJ17 I/O (io), AJ18 I/O (io), AJ19 I/O (io), AJ20 I/O (io), AJ21 I/O (io), AJ22 I/O (io), AJ23 I/O (io), AJ24 I/O (io), AJ25 I/O (io), AJ26 I/O (io), AJ27 I/O (io), AK3 I/O (io), AK4 I/O (io), AK5 I/O (io), AK6 I/O (io), AK7 I/O (io), AK8 I/O (io), AK9 I/O (io), AK10 I/O (io), AK11 I/O (io), AK12 I/O (io), AK13 I/O (io), AK14 I/O (io), AK15 I/O (io), AK16 I/O (~{INIT}) (io), AK17 I/O (io), AK18 I/O (io), AK19 I/O (io), AK20 I/O (io), AK21 I/O (io), AK22 I/O (io), AK23 I/O (io), AK24 I/O (io), AK25 I/O (io), AK26 I/O (io), AK27 I/O (io), AK28 I/O (io), AL4 I/O (io), AL5 I/O (io), AL6 I/O (io), AL8 I/O (io), AL10 I/O (io), AL12 I/O (io), AL13 I/O (io), AL15 I/O (io), AL16 I/O (io), AL17 I/O (io), AL19 I/O (io), AL20 I/O (io), AL22 I/O (io), AL24 I/O (io), AL26 I/O (io), AL27 I/O (io), AL28 I/O (io), C2 I/O (D0, DIN) (io), D1 I/O (io), D2 I/O (io), D3 I/O, GCK6 (DOUT) (io), D5 I/O, GCK7 (A1) (io), E1 I/O (io), E2 I/O (io), E3 I/O (io), E4 I/O (io), F1 I/O (io), F2 I/O (~{RCLK}, RDY/~{BUSY}) (io), F3 I/O (io), F4 I/O (io), G2 I/O (io), G3 I/O (io), G4 I/O (D1) (io), H1 I/O (io), H2 I/O (io), H3 I/O (io), H4 I/O (io), J2 I/O (io), J3 I/O (io), J4 I/O (io), K1 I/O (io), K2 I/O (io), K3 I/O (io), K4 I/O (io), L2 I/O (D2) (io), L3 I/O (io), M1 I/O (io), M2 I/O (io), M3 I/O (io), M4 I/O (io), N1 I/O (io), N2 I/O (io), N3 I/O (io), N4 I/O (io), P2 I/O (io), P3 I/O (io), P4 I/O (io), R1 I/O (~{RS}) (io), R2 I/O (io), R3 I/O (io), R4 I/O (io), T1 I/O (D4) (io), T2 I/O (io), T3 I/O (D3) (io), U1 I/O (io), U2 I/O (io), U3 I/O (io), U4 I/O (io), V2 I/O (io), V3 I/O (io), V4 I/O (io), W1 I/O (io), W2 I/O (io), W3 I/O (io), W4 I/O (io), Y1 I/O (io), Y2 I/O (~{CS0}) (io), Y3 I/O (io), Y4 I/O (io)
part C pins: A1 VCC (power), A2 GND (power), A3 GND (power), A7 GND (power), A9 GND (power), A11 VCC (power), A14 GND (power), A18 GND (power), A21 VCC (power), A23 GND (power), A25 GND (power), A29 GND (power), A30 GND (power), A31 VCC (power), AA1 VCC (power), AA4 VCC (power), AA28 VCC (power), AA31 VCC (power), AC1 GND (power), AC31 GND (power), AE1 GND (power), AE31 GND (power), AH3 ~{PROGRAM} (in), AH4 DONE (io), AH11 VCC (power), AH16 GND (power), AH21 VCC (power), AH28 I (M0) (in), AH29 O (M1) (io), AJ1 GND (power), AJ3 VCC (power), AJ28 I (M2) (in), AJ29 VCC (power), AJ31 GND (power), AK1 GND (power), AK2 GND (power), AK30 GND (power), AK31 GND (power), AL1 VCC (power), AL2 GND (power), AL3 GND (power), AL7 GND (power), AL9 GND (power), AL11 VCC (power), AL14 GND (power), AL18 GND (power), AL21 VCC (power), AL23 GND (power), AL25 GND (power), AL29 GND (power), AL30 GND (power), AL31 VCC (power), B1 GND (power), B2 GND (power), B30 GND (power), B31 GND (power), C1 GND (power), C3 VCC (power), C4 O, TDO (hiz), C8 NC, C29 VCC (power), C31 GND (power), D4 CCLK (io), D11 VCC (power), D16 GND (power), D21 VCC (power), D30 I/O (TDI) (io), D31 I/O (TCK) (io), G1 GND (power), G31 GND (power), J1 GND (power), J31 GND (power), K30 I/O (TMS) (io), L1 VCC (power), L4 VCC (power), L28 VCC (power), L31 VCC (power), P1 GND (power), P31 GND (power), T4 GND (power), T28 GND (power), V1 GND (power), V31 GND (power)

## XC4085XL-3BG432I
designator U?
XC4000XL FPGA, 432-Ball BGA, Industrial Grade; ComponentAvailability: Not for New Design; Published: 28-Feb-2003; LatestRevisionDate: 13-Apr-2006; LatestRevisionNote: IPC-7351 Footprint Added.; DatasheetVersion: (v1.6) May-99; PackageVersion: ver1.1, Apr-2001; PackageReference: BG432; Publisher: Altium Limited; PackageDescription: 432-Ball Metal Ball Grid Array (BG432); Code_JEDEC: MO-192-BAU-1 (Depopulated); ComponentLink1Description: Manufacturer Link; ComponentLink1URL: http://www.xilinx.com/; ComponentLink2Description: Datasheet; ComponentLink2URL: http://direct.xilinx.com/bvdocs/publications/4000.pdf; ComponentLink3Description: Discontinuation Notice; ComponentLink3URL: http://direct.xilinx.com/bvdocs/notifications/pdn2004-21.pdf
footprint BG432 (BGA, 432-Leads, Body 40x40mm, Pitch 1.27mm)
3D model XC4085XL-BG432 (432-Ball Metal Ball Grid Array (BG432))
part A pins: A4 I/O (io), A5 I/O (CS1, A2) (io), A6 I/O (io), A8 I/O (io), A10 I/O (io), A12 I/O (io), A13 I/O (A5) (io), A15 I/O (io), A16 I/O (A7) (io), A17 I/O (A9) (io), A19 I/O (io), A20 I/O (io), A22 I/O (io), A24 I/O (io), A26 I/O (io), A27 I/O (io), A28 I/O (io), AA29 I/O (io), AA30 I/O (io), AB28 I/O (io), AB29 I/O (io), AB30 I/O (io), AB31 I/O (io), AC28 I/O (io), AC29 I/O (io), AC30 I/O (io), AD28 I/O (io), AD29 I/O (io), AD30 I/O (io), AD31 I/O (io), AE28 I/O (io), AE29 I/O (io), AE30 I/O (io), AF28 I/O (io), AF29 I/O (io), AF30 I/O (io), AF31 I/O (io), AG28 I/O (io), AG29 I/O (io), AG30 I/O (io), AG31 I/O (io), AH30 I/O (io), AH31 I/O (io), AJ30 I/O, GCK2 (io), AK29 I/O, GCK3 (io), B3 I/O (A0, ~{WS}) (io), B4 I/O (io), B5 I/O (io), B6 I/O (io), B7 I/O (io), B8 I/O (io), B9 I/O (io), B10 I/O (io), B11 I/O (io), B12 I/O (io), B13 I/O (io), B14 I/O (io), B15 I/O (A20) (io), B16 I/O (A6) (io), B17 I/O (io), B18 I/O (io), B19 I/O (A10) (io), B20 I/O (io), B21 I/O (io), B22 I/O (io), B23 I/O (io), B24 I/O (io), B25 I/O (io), B26 I/O (A13) (io), B27 I/O (io), B28 I/O (io), B29 I/O (io), C5 I/O (io), C6 I/O (io), C7 I/O (io), C9 I/O (io), C10 I/O (io), C11 I/O (io), C12 I/O (io), C13 I/O (io), C14 I/O (A4) (io), C15 I/O (A21) (io), C16 I/O (io), C17 I/O (io), C18 I/O (A19) (io), C19 I/O (A11) (io), C20 I/O (io), C21 I/O (io), C22 I/O (io), C23 I/O (io), C24 I/O (io), C25 I/O (io), C26 I/O (io), C27 I/O (io), C28 I/O (A14) (io), C30 I/O (A17) (io), D6 I/O (io), D7 I/O (A3) (io), D8 I/O (io), D9 I/O (io), D10 I/O (io), D12 I/O (io), D13 I/O (io), D14 I/O (io), D15 I/O (io), D17 I/O (A8) (io), D18 I/O (A18) (io), D19 I/O (io), D20 I/O (io), D22 I/O (io), D23 I/O (io), D24 I/O (A12) (io), D25 I/O (io), D26 I/O (io), D27 I/O (io), D28 I/O, GCK8 (A15) (io), D29 I/O, GCK1 (A16) (io), E28 I/O (io), E29 I/O (io), E30 I/O (io), E31 I/O (io), F28 I/O (io), F29 I/O (io), F30 I/O (io), F31 I/O (io), G28 I/O (io), G29 I/O (io), G30 I/O (io), H28 I/O (io), H29 I/O (io), H30 I/O (io), H31 I/O (io), J28 I/O (io), J29 I/O (io), J30 I/O (io), K28 I/O (io), K29 I/O (io), K31 I/O (io), L29 I/O (io), L30 I/O (io), M28 I/O (io), M29 I/O (io), M30 I/O (io), M31 I/O (io), N28 I/O (io), N29 I/O (io), N30 I/O (io), N31 I/O (io), P28 I/O (io), P29 I/O (io), P30 I/O (io), R28 I/O (io), R29 I/O (io), R30 I/O (io), R31 I/O (io), T29 I/O (io), T30 I/O (io), T31 I/O (io), U28 I/O (io), U29 I/O (io), U30 I/O (io), U31 I/O (io), V28 I/O (io), V29 I/O (io), V30 I/O (io), W28 I/O (io), W29 I/O (io), W30 I/O (io), W31 I/O (io), Y28 I/O (io), Y29 I/O (io), Y30 I/O (io), Y31 I/O (io)
part B pins: AA2 I/O (D5) (io), AA3 I/O (io), AB1 I/O (io), AB2 I/O (io), AB3 I/O (io), AB4 I/O (io), AC2 I/O (io), AC3 I/O (io), AC4 I/O (io), AD1 I/O (io), AD2 I/O (io), AD3 I/O (io), AD4 I/O (io), AE2 I/O (io), AE3 I/O (io), AE4 I/O (io), AF1 I/O (D6) (io), AF2 I/O (io), AF3 I/O (io), AF4 I/O (io), AG1 I/O (io), AG2 I/O (io), AG3 I/O (io), AG4 I/O, GCK5 (io), AH1 I/O (io), AH2 I/O (io), AH5 I/O (io), AH6 I/O (io), AH7 I/O (io), AH8 I/O (io), AH9 I/O (io), AH10 I/O (io), AH12 I/O (io), AH13 I/O (io), AH14 I/O (io), AH15 I/O (io), AH17 I/O (io), AH18 I/O (io), AH19 I/O (io), AH20 I/O (io), AH22 I/O (io), AH23 I/O (io), AH24 I/O (io), AH25 I/O (io), AH26 I/O (~{LDC}) (io), AH27 I/O (HDC) (io), AJ2 I/O (D7) (io), AJ4 I/O, GCK4 (io), AJ5 I/O (io), AJ6 I/O (io), AJ7 I/O (io), AJ8 I/O (io), AJ9 I/O (io), AJ10 I/O (io), AJ11 I/O (io), AJ12 I/O (io), AJ13 I/O (io), AJ14 I/O (io), AJ15 I/O (io), AJ16 I/O (io), AJ17 I/O (io), AJ18 I/O (io), AJ19 I/O (io), AJ20 I/O (io), AJ21 I/O (io), AJ22 I/O (io), AJ23 I/O (io), AJ24 I/O (io), AJ25 I/O (io), AJ26 I/O (io), AJ27 I/O (io), AK3 I/O (io), AK4 I/O (io), AK5 I/O (io), AK6 I/O (io), AK7 I/O (io), AK8 I/O (io), AK9 I/O (io), AK10 I/O (io), AK11 I/O (io), AK12 I/O (io), AK13 I/O (io), AK14 I/O (io), AK15 I/O (io), AK16 I/O (~{INIT}) (io), AK17 I/O (io), AK18 I/O (io), AK19 I/O (io), AK20 I/O (io), AK21 I/O (io), AK22 I/O (io), AK23 I/O (io), AK24 I/O (io), AK25 I/O (io), AK26 I/O (io), AK27 I/O (io), AK28 I/O (io), AL4 I/O (io), AL5 I/O (io), AL6 I/O (io), AL8 I/O (io), AL10 I/O (io), AL12 I/O (io), AL13 I/O (io), AL15 I/O (io), AL16 I/O (io), AL17 I/O (io), AL19 I/O (io), AL20 I/O (io), AL22 I/O (io), AL24 I/O (io), AL26 I/O (io), AL27 I/O (io), AL28 I/O (io), C2 I/O (D0, DIN) (io), D1 I/O (io), D2 I/O (io), D3 I/O, GCK6 (DOUT) (io), D5 I/O, GCK7 (A1) (io), E1 I/O (io), E2 I/O (io), E3 I/O (io), E4 I/O (io), F1 I/O (io), F2 I/O (~{RCLK}, RDY/~{BUSY}) (io), F3 I/O (io), F4 I/O (io), G2 I/O (io), G3 I/O (io), G4 I/O (D1) (io), H1 I/O (io), H2 I/O (io), H3 I/O (io), H4 I/O (io), J2 I/O (io), J3 I/O (io), J4 I/O (io), K1 I/O (io), K2 I/O (io), K3 I/O (io), K4 I/O (io), L2 I/O (D2) (io), L3 I/O (io), M1 I/O (io), M2 I/O (io), M3 I/O (io), M4 I/O (io), N1 I/O (io), N2 I/O (io), N3 I/O (io), N4 I/O (io), P2 I/O (io), P3 I/O (io), P4 I/O (io), R1 I/O (~{RS}) (io), R2 I/O (io), R3 I/O (io), R4 I/O (io), T1 I/O (D4) (io), T2 I/O (io), T3 I/O (D3) (io), U1 I/O (io), U2 I/O (io), U3 I/O (io), U4 I/O (io), V2 I/O (io), V3 I/O (io), V4 I/O (io), W1 I/O (io), W2 I/O (io), W3 I/O (io), W4 I/O (io), Y1 I/O (io), Y2 I/O (~{CS0}) (io), Y3 I/O (io), Y4 I/O (io)
part C pins: A1 VCC (power), A2 GND (power), A3 GND (power), A7 GND (power), A9 GND (power), A11 VCC (power), A14 GND (power), A18 GND (power), A21 VCC (power), A23 GND (power), A25 GND (power), A29 GND (power), A30 GND (power), A31 VCC (power), AA1 VCC (power), AA4 VCC (power), AA28 VCC (power), AA31 VCC (power), AC1 GND (power), AC31 GND (power), AE1 GND (power), AE31 GND (power), AH3 ~{PROGRAM} (in), AH4 DONE (io), AH11 VCC (power), AH16 GND (power), AH21 VCC (power), AH28 I (M0) (in), AH29 O (M1) (io), AJ1 GND (power), AJ3 VCC (power), AJ28 I (M2) (in), AJ29 VCC (power), AJ31 GND (power), AK1 GND (power), AK2 GND (power), AK30 GND (power), AK31 GND (power), AL1 VCC (power), AL2 GND (power), AL3 GND (power), AL7 GND (power), AL9 GND (power), AL11 VCC (power), AL14 GND (power), AL18 GND (power), AL21 VCC (power), AL23 GND (power), AL25 GND (power), AL29 GND (power), AL30 GND (power), AL31 VCC (power), B1 GND (power), B2 GND (power), B30 GND (power), B31 GND (power), C1 GND (power), C3 VCC (power), C4 O, TDO (hiz), C8 NC, C29 VCC (power), C31 GND (power), D4 CCLK (io), D11 VCC (power), D16 GND (power), D21 VCC (power), D30 I/O (TDI) (io), D31 I/O (TCK) (io), G1 GND (power), G31 GND (power), J1 GND (power), J31 GND (power), K30 I/O (TMS) (io), L1 VCC (power), L4 VCC (power), L28 VCC (power), L31 VCC (power), P1 GND (power), P31 GND (power), T4 GND (power), T28 GND (power), V1 GND (power), V31 GND (power)